# EAGLE library part ARDUINO_PRO_MINI_V1 (library Arduino_Pro_Mini)
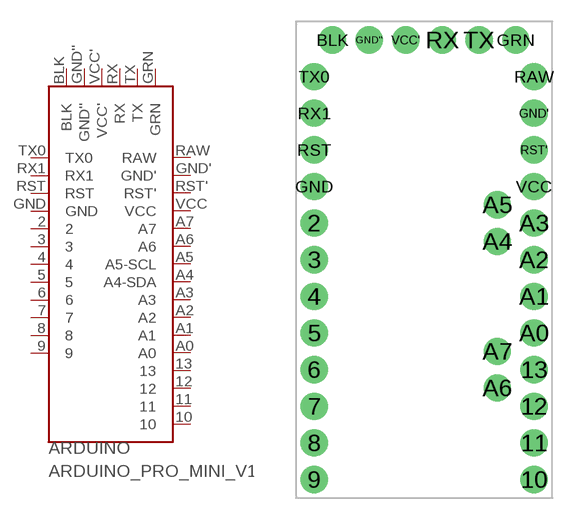
[diagram p0: symbol with the pads of ARDUINO_PRO_MINI_V1; footprint ARDUINO_PRO_MINI_V1]

Designator prefix ARDUINO

## ARDUINO_PRO_MINI_V1  [ARDUINO_PRO_MINI_V1]
2  2
3  3
4  4
5  5
6  6
7  7
8  8
9  9
10  10
11  11
12  12
13  13
A0  A0
A1  A1
A2  A2
A3  A3
A4  A4-SDA
A5  A5-SCL
A6  A6
A7  A7
BLK  BLK
GND  GND
GND'  GND'
GND''  GND''
GRN  GRN
RAW  RAW
RST  RST
RST'  RST'
RX  RX
RX1  RX1
TX  TX
TX0  TX0
VCC  VCC
VCC'  VCC'

## Footprint ARDUINO_PRO_MINI_V1 (pad centres in mm)
drill 1.016 pad 1.88 round: 2 -7.62,2.54; 3 -7.62,0; 4 -7.62,-2.54; 5 -7.62,-5.08; 6 -7.62,-7.62; 7 -7.62,-10.16; 8 -7.62,-12.7; 9 -7.62,-15.24; 10 7.62,-15.24; 11 7.62,-12.7; 12 7.62,-10.16; 13 7.62,-7.62; A0 7.62,-5.08; A1 7.62,-2.54; A2 7.62,0; A3 7.62,2.54; A4 5.08,1.27; A5 5.08,3.81; A6 5.08,-8.89; A7 5.08,-6.35; BLK -6.35,15.24; GND -7.62,5.08; GND' 7.62,10.16; GND'' -3.81,15.24; GRN 6.35,15.24; RAW 7.62,12.7; RST -7.62,7.62; RST' 7.62,7.62; RX 1.27,15.24; RX1 -7.62,10.16; TX 3.81,15.24; TX0 -7.62,12.7; VCC 7.62,5.08; VCC' -1.27,15.24